# EAGLE library part ATTINY10-TSHR (library marius)
8-bit Microcontroller with In-System Programmable Flash
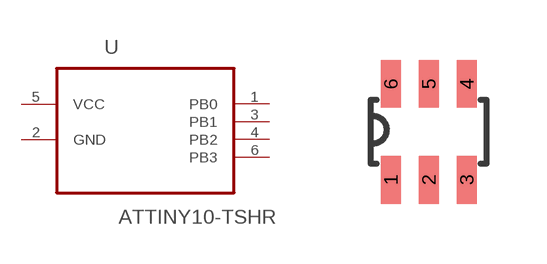
[diagram p11: symbol with the pads of SOT26; footprint SOT26]

Designator prefix U

## ATTINY10-TSHRSOT26 (MPN: ATTINY10-TSHR)  [SOT26]
1  PB0
2  GND  pas
3  PB1
4  PB2
5  VCC  pwr
6  PB3

## Footprint SOT26 (pad centres in mm)
Original name SOP95P250X110-6N-1
smd 0.5 x 1.2: 1 -0.95,-1.2; 2 0,-1.2; 3 0.95,-1.2; 4 0.95,1.2; 5 0,1.2; 6 -0.95,1.2